# EAGLE library part IMS-T805B (library Transputers)
T805 transputer style-B INMOS 32-bit transputer with four communication links. Source: The Transputer Databook 1992 INMOS/SGS-Thomson Arto Kyyhkynen, artoky@dlc.fi
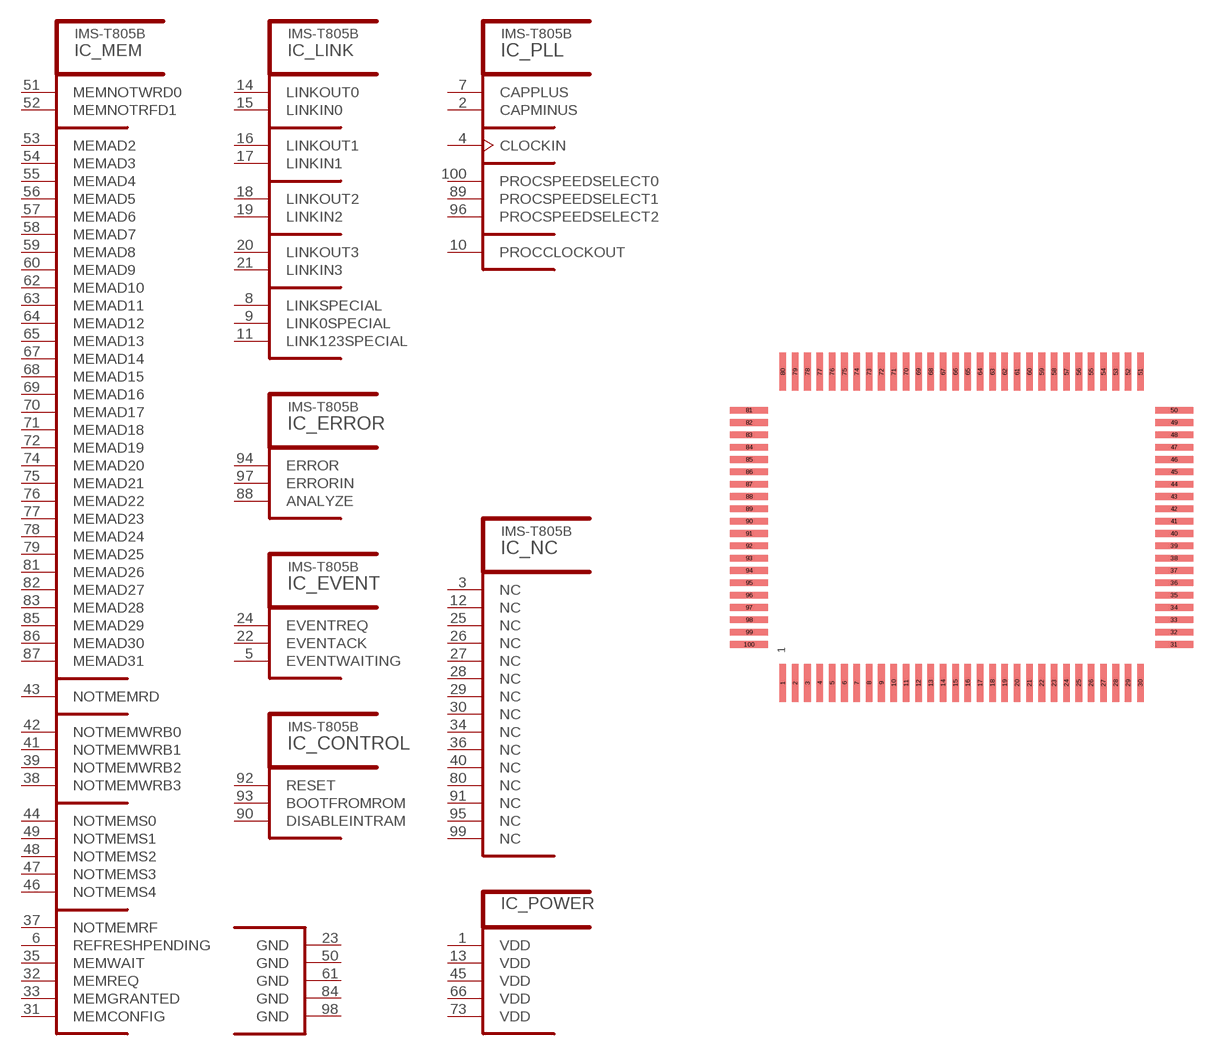
[diagram p10: symbol with the pads of CQFP100-CD; footprint CQFP100-CD]

Designator prefix IC; gates _CONTROL=T8CONTROL _ERROR=T8ERROR _EVENT=T8EVENT _LINK=T8LINK _MEM=T8MEM _PLL=T8PLL _POWER=T8B_SUP _NC=T8B_NC

## IMS-T805BS20F, IMS-T805BS25F, IMS-T805BS30F  [CQFP100-CD]
1  _POWER:VDD  pwr
2  _PLL:CAPMINUS  pas
3  _NC:NC  nc
4  _PLL:CLOCKIN  in
5  _EVENT:EVENTWAITING  out
6  _MEM:REFRESHPENDING  out
7  _PLL:CAPPLUS  pas
8  _LINK:LINKSPECIAL  in
9  _LINK:LINK0SPECIAL  in
10  _PLL:PROCCLOCKOUT  out
11  _LINK:LINK123SPECIAL  in
12  _NC:NC  nc
13  _POWER:VDD  pwr
14  _LINK:LINKOUT0  out
15  _LINK:LINKIN0  in
16  _LINK:LINKOUT1  out
17  _LINK:LINKIN1  in
18  _LINK:LINKOUT2  out
19  _LINK:LINKIN2  in
20  _LINK:LINKOUT3  out
21  _LINK:LINKIN3  in
22  _EVENT:EVENTACK  out
23  _POWER:GND  pwr
24  _EVENT:EVENTREQ  in
25  _NC:NC  nc
26  _NC:NC  nc
27  _NC:NC  nc
28  _NC:NC  nc
29  _NC:NC  nc
30  _NC:NC  nc
31  _MEM:MEMCONFIG  in
32  _MEM:MEMREQ  in
33  _MEM:MEMGRANTED  out
34  _NC:NC  nc
35  _MEM:MEMWAIT  in
36  _NC:NC  nc
37  _MEM:NOTMEMRF  out
38  _MEM:NOTMEMWRB3  out
39  _MEM:NOTMEMWRB2  out
40  _NC:NC  nc
41  _MEM:NOTMEMWRB1  out
42  _MEM:NOTMEMWRB0  out
43  _MEM:NOTMEMRD  out
44  _MEM:NOTMEMS0  out
45  _POWER:VDD  pwr
46  _MEM:NOTMEMS4  out
47  _MEM:NOTMEMS3  out
48  _MEM:NOTMEMS2  out
49  _MEM:NOTMEMS1  out
50  _POWER:GND  pwr
51  _MEM:MEMNOTWRD0
52  _MEM:MEMNOTRFD1
53  _MEM:MEMAD2
54  _MEM:MEMAD3
55  _MEM:MEMAD4
56  _MEM:MEMAD5
57  _MEM:MEMAD6
58  _MEM:MEMAD7
59  _MEM:MEMAD8
60  _MEM:MEMAD9
61  _POWER:GND  pwr
62  _MEM:MEMAD10
63  _MEM:MEMAD11
64  _MEM:MEMAD12
65  _MEM:MEMAD13
66  _POWER:VDD  pwr
67  _MEM:MEMAD14
68  _MEM:MEMAD15
69  _MEM:MEMAD16
70  _MEM:MEMAD17
71  _MEM:MEMAD18
72  _MEM:MEMAD19
73  _POWER:VDD  pwr
74  _MEM:MEMAD20
75  _MEM:MEMAD21
76  _MEM:MEMAD22
77  _MEM:MEMAD23
78  _MEM:MEMAD24
79  _MEM:MEMAD25
80  _NC:NC  nc
81  _MEM:MEMAD26
82  _MEM:MEMAD27
83  _MEM:MEMAD28
84  _POWER:GND  pwr
85  _MEM:MEMAD29
86  _MEM:MEMAD30
87  _MEM:MEMAD31
88  _ERROR:ANALYZE  in
89  _PLL:PROCSPEEDSELECT1  in
90  _CONTROL:DISABLEINTRAM  in
91  _NC:NC  nc
92  _CONTROL:RESET  in
93  _CONTROL:BOOTFROMROM  in
94  _ERROR:ERROR  out
95  _NC:NC  nc
96  _PLL:PROCSPEEDSELECT2  in
97  _ERROR:ERRORIN  in
98  _POWER:GND  pwr
99  _NC:NC  nc
100  _PLL:PROCSPEEDSELECT0  in

## Footprint CQFP100-CD (pad centres in mm)
Cavity Down Ceramic Quad Flat Pack INMOS/ST-Microelectronics
smd 0.35 x 2: 1 -9.425,-8.2; 2 -8.775,-8.2; 3 -8.125,-8.2; 4 -7.475,-8.2; 5 -6.825,-8.2; 6 -6.175,-8.2; 7 -5.525,-8.2; 8 -4.875,-8.2; 9 -4.225,-8.2; 10 -3.575,-8.2; 11 -2.925,-8.2; 12 -2.275,-8.2; 13 -1.625,-8.2; 14 -0.975,-8.2; 15 -0.325,-8.2; 16 0.325,-8.2; 17 0.975,-8.2; 18 1.625,-8.2; 19 2.275,-8.2; 20 2.925,-8.2; 21 3.575,-8.2; 22 4.225,-8.2; 23 4.875,-8.2; 24 5.525,-8.2; 25 6.175,-8.2; 26 6.825,-8.2; 27 7.475,-8.2; 28 8.125,-8.2; 29 8.775,-8.2; 30 9.425,-8.2; 51 9.425,8.2; 52 8.775,8.2; 53 8.125,8.2; 54 7.475,8.2; 55 6.825,8.2; 56 6.175,8.2; 57 5.525,8.2; 58 4.875,8.2; 59 4.225,8.2; 60 3.575,8.2; 61 2.925,8.2; 62 2.275,8.2; 63 1.625,8.2; 64 0.975,8.2; 65 0.325,8.2; 66 -0.325,8.2; 67 -0.975,8.2; 68 -1.625,8.2; 69 -2.275,8.2; 70 -2.925,8.2; 71 -3.575,8.2; 72 -4.225,8.2; 73 -4.875,8.2; 74 -5.525,8.2; 75 -6.175,8.2; 76 -6.825,8.2; 77 -7.475,8.2; 78 -8.125,8.2; 79 -8.775,8.2; 80 -9.425,8.2
smd 2 x 0.35: 31 11.2,-6.175; 32 11.2,-5.525; 33 11.2,-4.875; 34 11.2,-4.225; 35 11.2,-3.575; 36 11.2,-2.925; 37 11.2,-2.275; 38 11.2,-1.625; 39 11.2,-0.975; 40 11.2,-0.325; 41 11.2,0.325; 42 11.2,0.975; 43 11.2,1.625; 44 11.2,2.275; 45 11.2,2.925; 46 11.2,3.575; 47 11.2,4.225; 48 11.2,4.875; 49 11.2,5.525; 50 11.2,6.175; 81 -11.2,6.175; 82 -11.2,5.525; 83 -11.2,4.875; 84 -11.2,4.225; 85 -11.2,3.575; 86 -11.2,2.925; 87 -11.2,2.275; 88 -11.2,1.625; 89 -11.2,0.975; 90 -11.2,0.325; 91 -11.2,-0.325; 92 -11.2,-0.975; 93 -11.2,-1.625; 94 -11.2,-2.275; 95 -11.2,-2.925; 96 -11.2,-3.575; 97 -11.2,-4.225; 98 -11.2,-4.875; 99 -11.2,-5.525; 100 -11.2,-6.175